# Altium footprint library other - 副本.PcbLib: 17 footprints (part 1 of 2)
Each footprint in its own frame and in the unit in brackets; x right, y up, seen from the top. Pads: shape width x height; smd on the part's side, far side on the other; paste and mask are expansions set on the pad; w line width, h text height; cw(c..) or ccw(c..) is an arc to the next point about the centre after c.
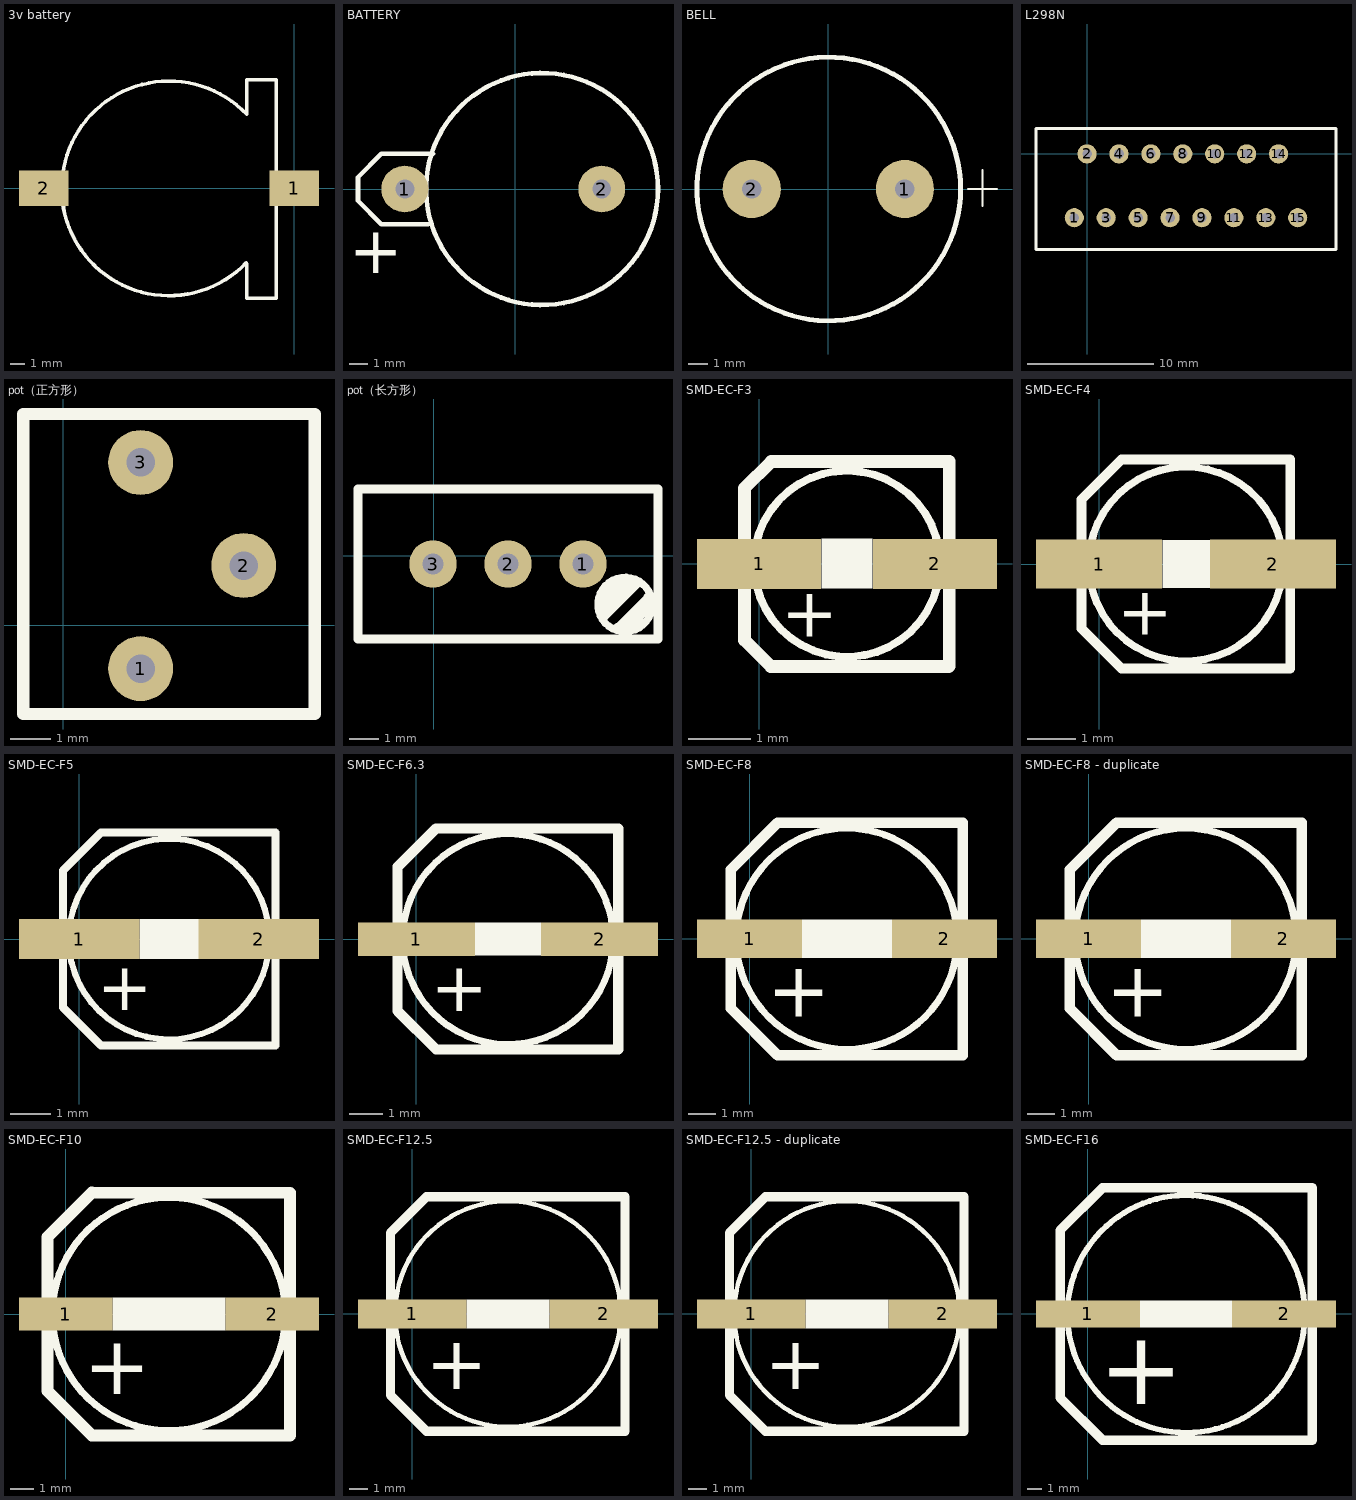
[diagram p0: the footprints below, top view; thin cyan lines are the x and y axes]

## 3v battery [mm]
height 1.1
pads (2):
  rect 3.5x2.5 smd: 1(0,0) 2(-17.78,0)
Top Overlay:
  lines w0.254: -3.423,-5.296 cw(c-8.89,0) -3.384,5.256 -3.384,7.702 -1.27,7.702 -1.27,-7.792 -3.384,-7.792 -3.384,-5.335 -3.423,-5.296

## BATTERY [mil]
pads (2):
  round 100 hole 40: 1(-235,0) 2(185,0)
Top Overlay:
  circle w10: c57.5,0 r247.5
  lines w10: -185,-75 -285,-75 -335,-25 -335,25 -285,75 -175,75
  text "+" at -240,-180 h100

## BELL [mil]
pads (2):
  round 120 hole 40: 1(158,0) 2(-158,0)
Top Overlay:
  circle w10: c1.11,0 r271.89
  lines w4: 288,0 313,0 ; 302,0 348,0 ; 318,-35 318,39

## L298N [mil]
pads (15):
  round 60 hole 30: 1(-40,-200) 2(0,0) 3(60,-200) 4(100,0) 5(160,-200) 6(200,0) 7(260,-200) 8(300,0) 9(360,-200) 10(400,0) 11(460,-200) 12(500,0) 13(560,-200) 14(600,0) 15(660,-200)
Top Overlay:
  lines w10: -160,-300 -160,80 -140,80 780,80 780,-300 -160,-300

## pot（正方形） [mm]
pads (3):
  round 1.6 hole 0.7: 1(1.905,-1.067) 2(4.445,1.473) 3(1.905,4.013)
Top Overlay:
  lines w0.305: -0.991,-2.184 6.198,-2.184 6.198,5.207 -0.991,5.207 -0.991,-2.184

## pot（长方形） [mm]
pads (3):
  round 1.6 hole 0.7: 1(5.055,-0.279) 2(2.515,-0.279) 3(-0.025,-0.279)
Top Overlay:
  circle w0.254: c6.477,-1.651 r0.916
  lines w0.254: 6.649,-2.241 6.813,-2.241 6.985,-2.413 ; 6.985,-0.889 6.477,-1.397 5.715,-2.159 5.715,-1.905 6.731,-0.889 6.223,-0.889 ; 7.033,-2.365 6.985,-2.413 ; 7.239,-1.397 6.223,-2.413 6.477,-2.413 ; 5.969,-1.143 6.223,-1.143 ; 5.969,-1.143 5.715,-1.397 5.715,-1.651 6.223,-1.143 ; 5.969,-1.143 6.223,-0.889 ; 6.223,-1.143 6.223,-0.889 ; 6.223,-1.143 6.477,-1.143 6.223,-0.889 ; 6.477,-2.413 6.879,-2.011 7.033,-2.011 7.393,-1.651 7.393,-1.551 7.033,-1.911 6.979,-1.911 6.985,-1.917 6.985,-2.413 ; 6.477,-2.413 6.985,-2.413
  lines w0.305: 7.595,-2.819 -2.565,-2.819 -2.565,2.261 7.595,2.261 7.595,-2.718

## SMD-EC-F3 [mm]
pads (2):
  rect 2x0.8 smd: 1(0,0) 2(2.835,0)
Top Overlay:
  rectangle: 1.003,-0.399 1.832,0.407
  lines w0.127: 2.777,0.636 ccw(c1.417,0.003) 2.777,0.634
  lines w0.203: 0.19,1.646 -0.234,1.222 -0.234,-1.229 0.19,-1.653 3.059,-1.653 ; 0.195,1.651 3.066,1.651 3.066,-1.647
  text "+" at 0.361,-1.174 h0.8

## SMD-EC-F4 [mm]
pads (2):
  rect 2.6x1 smd: 1(0,0) 2(3.579,0)
Top Overlay:
  rectangle: 1.302,-0.499 2.279,0.5
  lines w0.152: 3.561,0.924 ccw(c1.787,0) 3.562,0.921
  lines w0.203: 3.936,2.151 0.461,2.151 -0.364,1.325 -0.364,-1.324 0.461,-2.15 3.937,-2.15 3.937,2.15
  text "+" at 0.37,-1.46 h1

## SMD-EC-F5 [mm]
pads (2):
  rect 3x1 smd: 1(0,0) 2(4.477,0)
Top Overlay:
  rectangle: 1.5,-0.5 2.981,0.5
  lines w0.152: 4.412,1.239 ccw(c2.241,0) 4.415,1.235
  lines w0.203: 0.217,-2.33 -0.407,-1.706 ; 4.89,2.656 0.542,2.656 0.541,2.655 -0.407,1.707 -0.407,-1.706 ; 4.891,-2.654 0.542,-2.654 0.542,-2.654 -0.407,-1.706 ; 4.892,-2.654 4.892,2.654
  text "+" at 0.445,-1.777 h1.2

## SMD-EC-F6.3 [mm]
pads (2):
  rect 3.5x1 smd: 1(0,0) 2(5.475,0)
Top Overlay:
  rectangle: 1.746,-0.496 3.73,0.5
  lines w0.203: 5.667,1.156 ccw(c2.736,0.002) 5.667,1.154
  lines w0.305: 0.587,-3.303 -0.564,-2.152 -0.564,2.163 0.587,3.314 ; 0.589,-3.305 6.036,-3.305 6.036,3.309 0.592,3.309
  text "+" at 0.43,-2.164 h1.5

## SMD-EC-F8 [mm]
pads (2):
  rect 3.8x1.4 smd: 1(0,0) 2(7.051,0)
Top Overlay:
  rectangle: 1.89,-0.7 5.153,0.7
  lines w0.254: 7.515,0 ccw(c3.515,0) 7.515,0
  lines w0.381: -0.686,2.499 1.013,4.198 ; -0.686,2.499 -0.686,-2.52 1.013,-4.219 7.714,-4.219 7.714,4.198 1.013,4.198 ; -0.686,2.499 1.013,4.198
  text "+" at 0.64,-2.818 h2

## SMD-EC-F8 - duplicate [mm]
pads (2):
  rect 3.8x1.4 smd: 1(0,0) 2(7.051,0)
Top Overlay:
  rectangle: 1.89,-0.7 5.153,0.7
  lines w0.254: 7.515,0 ccw(c3.515,0) 7.515,0
  lines w0.381: -0.686,2.499 1.013,4.198 ; -0.686,2.499 -0.686,-2.52 1.013,-4.219 7.714,-4.219 7.714,4.198 1.013,4.198 ; -0.686,2.499 1.013,4.198
  text "+" at 0.64,-2.818 h2

## SMD-EC-F10 [mm]
pads (2):
  rect 4x1.4 smd: 1(0,0) 2(8.86,0)
Top Overlay:
  circle w0.305: c4.422,0 r5
  rectangle: 2.006,-0.701 6.849,0.707
  lines w0.508: 1.12,5.203 -0.778,3.306 -0.778,-3.304 1.12,-5.201 9.62,-5.201 9.62,5.2 1.123,5.2
  text "+" at 0.78,-3.44 h2.5

## SMD-EC-F12.5 [mm]
pads (2):
  rect 6x1.6 smd: 1(0,0) 2(10.625,0)
Top Overlay:
  circle w0.254: c5.303,0 r6.25
  rectangle: 3.019,-0.8 7.601,0.8
  lines w0.508: -1.202,-4.498 -1.202,4.494 0.797,6.493 0.799,6.495 11.797,6.495 11.797,-6.499 0.799,-6.499 -1.202,-4.498
  text "+" at 0.75,-4.168 h3

## SMD-EC-F12.5 - duplicate [mm]
pads (2):
  rect 6x1.6 smd: 1(0,0) 2(10.625,0)
Top Overlay:
  circle w0.254: c5.303,0 r6.25
  rectangle: 3.019,-0.8 7.601,0.8
  lines w0.508: -1.202,-4.498 0.799,-6.499 11.797,-6.499 11.797,6.495 0.799,6.495 0.797,6.493 -1.202,4.494 -1.202,-4.498
  text "+" at 0.75,-4.168 h3

## SMD-EC-F16 [mm]
pads (2):
  rect 7x1.8 smd: 1(0,0) 2(13.215,0)
Top Overlay:
  rectangle: 3.503,-0.9 9.696,0.914
  lines w0.381: 14.301,2.24 ccw(c6.62,0.001) 14.315,2.19
  lines w0.635: 15.122,-8.499 15.123,-8.5 ; 15.122,8.496 15.123,8.497 ; 15.123,-8.5 15.123,8.497 ; 15.123,-8.5 0.981,-8.5 -1.877,-5.642 -1.877,5.638 0.981,8.497 15.123,8.497
  text "+" at 0.729,-6.087 h5